# Altium schematic symbol library CONN_HDR_2X2.SchLib: 1 symbol
Pins are listed as number, name and electrical type; pins without a type are passive.

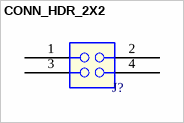
[diagram p0: symbol CONN_HDR_2X2]

## CONN_HDR_2X2
designator J?
HDR 2X2 TH 100MIL CTR 330H AU 120L
pins: 1 A1, 2 B1, 3 A2, 4 B2